# Altium schematic symbol library Schlib1.SchLib: 21 symbols
Pins are listed as number, name and electrical type; pins without a type are passive.

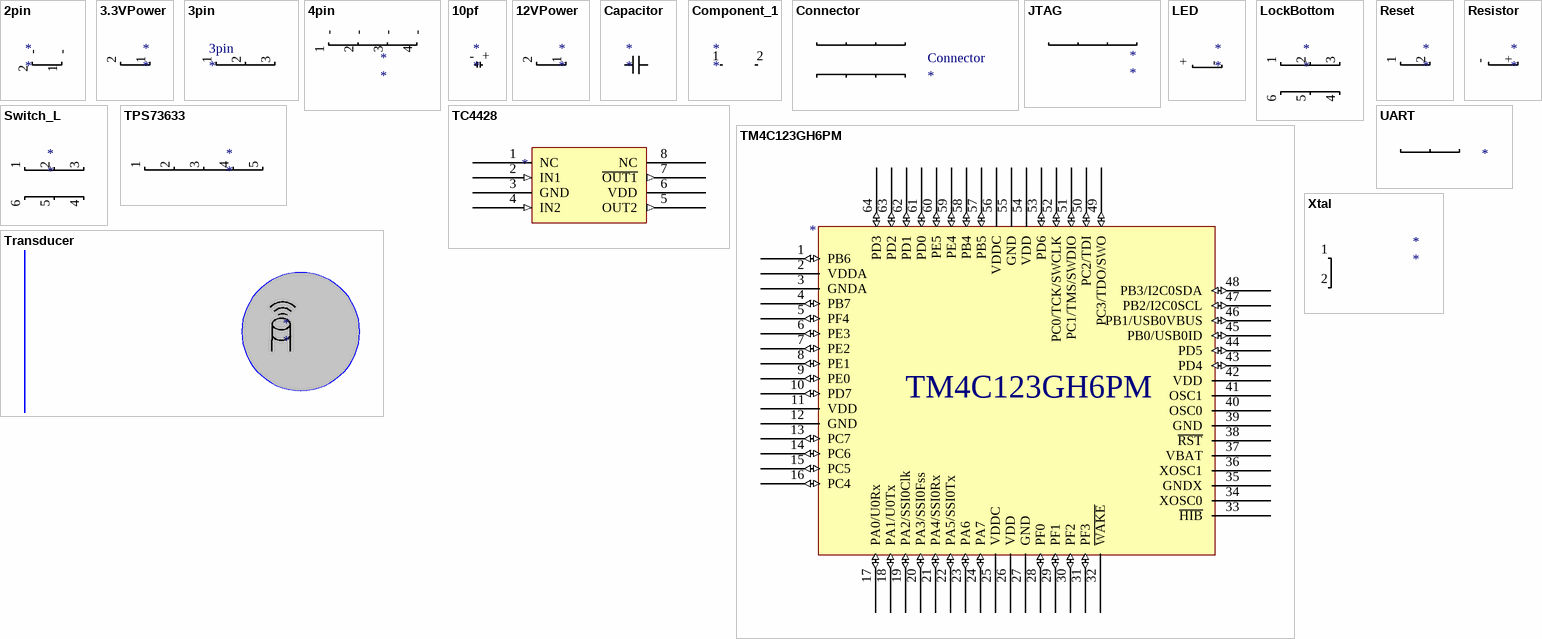
[diagram p0: symbols 2pin to Xtal]

## 2pin
designator *
footprint DIP2
pins: 1 -, 2 -

## 3.3VPower
designator *
footprint DIP2
pins: 1, 2

## 3pin
designator 3pin
footprint 3pin
pins: 1, 2, 3

## 4pin
designator *
footprint DIP4
pins: 1 -, 2 -, 3 -, 4 -

## 10pf
designator *
footprint 10pf; pin to pad +>2 ->1
pins: +, -

## 12VPower
designator *
footprint DIP10
pins: 1, 2

## Capacitor
designator *
footprint 0805; pin to pad +>1 ->2
pins: +, -

## Component_1
designator *
pins: 1, 2

## Connector
designator Connector
footprint Connector
pins: 1, 2, 3, 4, 5, 6, 7, 8

## JTAG
designator *
footprint JTAG - duplicate
pins: 3.3V, GND, SWC, SWD

## LED
designator *
footprint 0805; pin to pad +>1 ->2
pins: +, -

## LockBottom
designator *
footprint Lock
pins: 1, 2, 3, 4, 5, 6

## Reset
designator *
footprint DIP2
pins: 1, 2

## Resistor
designator *
footprint 0805; pin to pad +>2 ->1
pins: +, -

## Switch_L
designator *
footprint DIP6
pins: 1, 2, 3, 4, 5, 6

## TC4428
designator TC4428
Dual High-Speed Power MOSFET Drivers
footprint TC4428SOC
pins: 1 NC, 2 IN1 (in), 3 GND (power), 4 IN2 (in), 5 OUT2 (out), 6 VDD (power), 7 ~{OUT1} (out), 8 NC

## TM4C123GH6PM
designator TM4C123GH6PM
IC MCU 32BIT 256KB FLASH 64LQFP
footprint Quad64 - duplicate
pins: 1 PB6 (io), 2 VDDA (power), 3 GNDA (power), 4 PB7 (io), 5 PF4 (io), 6 PE3 (io), 7 PE2 (io), 8 PE1 (io), 9 PE0 (io), 10 PD7 (io), 11 VDD (power), 12 GND (power), 13 PC7 (io), 14 PC6 (io), 15 PC5 (io), 16 PC4 (io), 17 PA0/U0Rx (io), 18 PA1/U0Tx (io), 19 PA2/SSI0Clk (io), 20 PA3/SSI0Fss (io), 21 PA4/SSI0Rx (io), 22 PA5/SSI0Tx (io), 23 PA6 (io), 24 PA7 (io), 25 VDDC (power), 26 VDD (power), 27 GND (power), 28 PF0 (io), 29 PF1 (io), 30 PF2 (io), 31 PF3 (io), 32 ~{WAKE}, 33 ~{HIB}, 34 XOSC0, 35 GNDX (power), 36 XOSC1, 37 VBAT, 38 ~{RST}, 39 GND (power), 40 OSC0, 41 OSC1, 42 VDD (power), 43 PD4 (io), 44 PD5 (io), 45 PB0/USB0ID (io), 46 PB1/USB0VBUS (io), 47 PB2/I2C0SCL (io), 48 PB3/I2C0SDA (io), 49 PC3/TDO/SWO (io), 50 PC2/TDI (io), 51 PC1/TMS/SWDIO (io), 52 PC0/TCK/SWCLK (io), 53 PD6 (io), 54 VDD (power), 55 GND (power), 56 VDDC (power), 57 PB5 (io), 58 PB4 (io), 59 PE4 (io), 60 PE5 (io), 61 PD0 (io), 62 PD1 (io), 63 PD2 (io), 64 PD3 (io)

## TPS73633
designator *
footprint 3.3v; pin to pad 5>6
pins: 1, 2, 3, 4, 5

## Transducer
designator *
pins: ?1, ?2

## UART
designator UART
footprint UART
pins: GND, RX, TX

## Xtal
designator *
footprint Crystal
pins: 1, 2